# Altium footprint library GT_16u2_Rev2.PcbLib: 1 footprints
Each footprint in its own frame and in the unit in brackets; x right, y up, seen from the top. Pads: shape width x height; smd on the part's side, far side on the other; paste and mask are expansions set on the pad; w line width, h text height; cw(c..) or ccw(c..) is an arc to the next point about the centre after c.
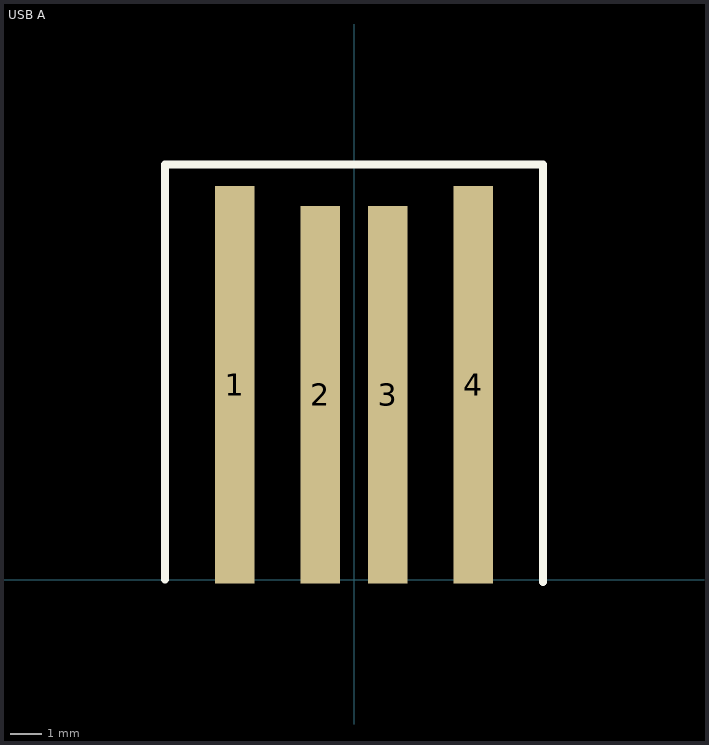
[diagram p0: the footprint, top view; thin cyan lines are the x and y axes]

## USB A [mil]
pads (4):
  rect 50x500 smd: 1(-150,245) 4(150,245)
  rect 50x475 smd: 2(-42.5,232.5) 3(42.5,232.5)
Top Overlay:
  lines w10: -237.5,0 -237.5,521.99 ; 237.48,-2.99 237.48,522.01 -237.52,522.01 ; -237.52,522.01 -237.5,521.99